# EAGLE library part 6250XX21721_62504021721 (library con-wurth-board-header)
WR-BHD 2.00 mm Male Angled Box Header KIND PROPERTIES: Pitch 2 mm Gender:Male MATERIAL PROPERTIES: Insulator Material:PBT Insulator Flammability Rating UL94 V-0 Insulator Color:Black Contact Material :Copper Alloy Contact Plating :Gold Contact Type: Stamped GENERAL INFORMATION: Operating Temperature:-40 °C up to +125 °C Compliance:RoHS Working Voltage: 250 V (AC) Withstanding Voltage:500 V (AC) Contact Resistance: 20 mΩ Insulation Resistance:1000 MΩ PACKAGING PROPERTIES Packaging :Tray <https://www.we-online.de/katalog/media/o32929v209%20Family_WR-BHD_6250xx21721.jpg> Details see: https://www.we-online.de/katalog/en/em/BHD_2_00_MALE_ANGLED_BOX_HEADER_6250XX21721 Updated by Yingchun,Shan 2019-11-04 2019 (C) Würth Elektronik
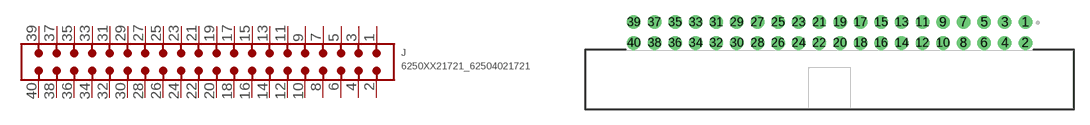
[diagram p21: symbol with the pads of 62504021721; footprint 62504021721]

Designator prefix J

## 6250XX21721_62504021721 (CONTACT-RESISTANCE: 20mOhm; DATASHEET-URL: https://www.we-online.com/redexpert/spec/62504021721?ae; GENDER: Male; IR: 2A; LENGTH: 47.25mm; MOUNT: THT; PACKAGING: Tray; PART-NUMBER: 62504021721; PINS: 40; PITCH: 2mm; TYPE: Angled; VALUE: 62504021721; WORKING-VOLTAGE: 250V(AC))  [62504021721]
1  1  pas
2  2  pas
3  3  pas
4  4  pas
5  5  pas
6  6  pas
7  7  pas
8  8  pas
9  9  pas
10  10  pas
11  11  pas
12  12  pas
13  13  pas
14  14  pas
15  15  pas
16  16  pas
17  17  pas
18  18  pas
19  19  pas
20  20  pas
21  21  pas
22  22  pas
23  23  pas
24  24  pas
25  25  pas
26  26  pas
27  27  pas
28  28  pas
29  29  pas
30  30  pas
31  31  pas
32  32  pas
33  33  pas
34  34  pas
35  35  pas
36  36  pas
37  37  pas
38  38  pas
39  39  pas
40  40  pas

## Footprint 62504021721 (pad centres in mm)
WR-BHD 2.00 mm Male Angled Box Header,40 pins
drill 0.8: 1 19,5.55; 2 19,3.55; 3 17,5.55; 4 17,3.55; 5 15,5.55; 6 15,3.55; 7 13,5.55; 8 13,3.55; 9 11,5.55; 10 11,3.55; 11 9,5.55; 12 9,3.55; 13 7,5.55; 14 7,3.55; 15 5,5.55; 16 5,3.55; 17 3,5.55; 18 3,3.55; 19 1,5.55; 20 1,3.55; 21 -1,5.55; 22 -1,3.55; 23 -3,5.55; 24 -3,3.55; 25 -5,5.55; 26 -5,3.55; 27 -7,5.55; 28 -7,3.55; 29 -9,5.55; 30 -9,3.55; 31 -11,5.55; 32 -11,3.55; 33 -13,5.55; 34 -13,3.55; 35 -15,5.55; 36 -15,3.55; 37 -17,5.55; 38 -17,3.55; 39 -19,5.55; 40 -19,3.55